# Altium schematic symbol library MEB_SCH.SchLib: 70 symbols (part 1 of 2)
Pins are listed as number, name and electrical type; pins without a type are passive.

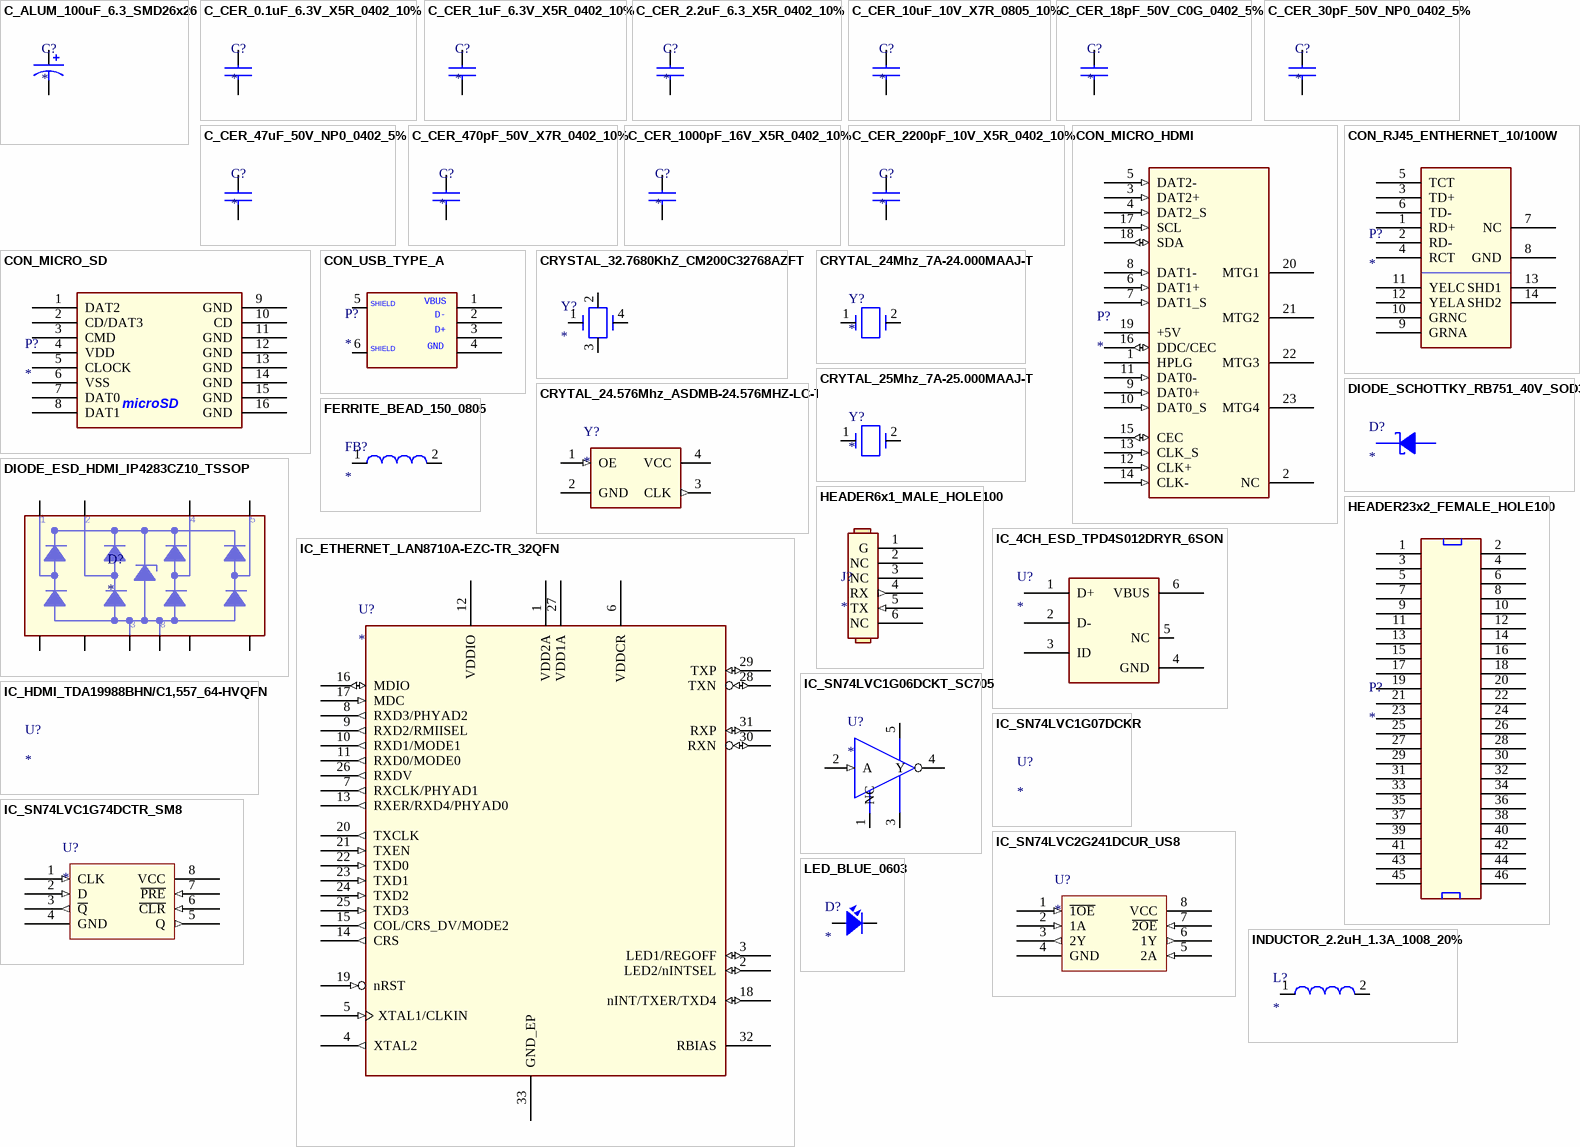
[diagram p0: symbols C_ALUM_100uF_6.3_SMD26x26 to LED_BLUE_0603]

## C_ALUM_100uF_6.3_SMD26x26
designator C?
CAP ALUM 100UF 20% 6.3V SMD; Manufacturer: Cornell Dubilier Electronics (CDE); Manufacturer Part Number: AVE107M06D16T-F; Capacitance: 100µF; ESR (Equivalent Series Resistance): 4.64 Ohm @ 120Hz; Lifetime @ Temp.: 2000 Hrs @ 85°C; Polarization: Polar; Ripple Current: 120mA @ 120Hz; Surface Mount Land Size: 0.260" L x 0.260" W (6.60mm x 6.60mm); Supplier 1: Digi-Key; RoHS: RoHS Compliant; Category: Capacitors; Stock 1: 18000; Pricing 1: 1000=0.0855, 2000=0.081, 5000=0.0765, 10000=0.072, 25000=0.0675, 50000=0.063, 100000=0.0585 (USD); Packaging: Tape & Reel (TR); Part Status: Active; Tolerance: ±20%; Voltage Rating: 6.3V; Operating Temperature: -40°C ~ 85°C; Applications: General Purpose; Impedance: -; Lead Spacing: -; Size / Dimension: 0.248" Dia (6.30mm); Height - Seated (Max): 0.209" (5.30mm); Mounting Type: Surface Mount; Package / Case: Radial, Can - SMD; ComponentLink1URL: http://www.cde.com/resources/catalogs/AVE.pdf; ComponentLink1Description: http://www.cde.com/resources/catalogs/AVE.pdf; Supplier Part Number 1: 338-1787-2-ND
pins: 1, 2

## C_CER_0.1uF_6.3V_X5R_0402_10%
designator C?
CAP CER 0.1UF 6.3V X5R 0402; Manufacturer: Murata Electronics North America; Manufacturer Part Number: GRM155R60J104KA01D; Capacitance: 0.10µF; Tolerance: ±10%; Supplier 1: Digi-Key; RoHS: RoHS Compliant; Category: Capacitors; Stock 1: 370000; Pricing 1: 10000=0.0021, 20000=0.002, 30000=0.0019, 50000=0.0017, 100000=0.00138 (USD); Packaging: Tape & Reel (TR); Part Status: Active; Voltage - Rated: 6.3V; Temperature Coefficient: X5R; Operating Temperature: -55°C ~ 85°C; Features: -; Ratings: -; Applications: General Purpose; Failure Rate: *; Mounting Type: Surface Mount, MLCC; Package / Case: 0402 (1005 Metric); Size / Dimension: 0.039" L x 0.020" W (1.00mm x 0.50mm); Height - Seated (Max): -; Thickness (Max): 0.022" (0.55mm); Lead Spacing: -; Lead Style: -; ComponentLink1URL: http://www.murata.com/~/media/webrenewal/support/library/catalog/products/capacitor/mlcc/c02e.pdf; ComponentLink1Description: http://www.murata.com/~/media/webrenewal/support/library/catalog/products/capacitor/mlcc/c02e.pdf; Supplier Part Number 1: 490-6287-2-ND
pins: 1, 2

## C_CER_1uF_6.3V_X5R_0402_10%
designator C?
CAP CER 1UF 6.3V X5R 0402; Manufacturer: Murata Electronics North America; Manufacturer Part Number: GRM155R60J105KE19D; Capacitance: 1µF; Tolerance: ±10%; Supplier 1: Digi-Key; RoHS: RoHS Compliant; Category: Capacitors; Stock 1: 3360000; Pricing 1: 10000=0.00365, 20000=0.00348, 30000=0.00331, 50000=0.00296, 100000=0.00239 (USD); Packaging: Tape & Reel (TR); Part Status: Active; Voltage - Rated: 6.3V; Temperature Coefficient: X5R; Operating Temperature: -55°C ~ 85°C; Features: -; Ratings: -; Applications: General Purpose; Failure Rate: *; Mounting Type: Surface Mount, MLCC; Package / Case: 0402 (1005 Metric); Size / Dimension: 0.039" L x 0.020" W (1.00mm x 0.50mm); Height - Seated (Max): -; Thickness (Max): 0.022" (0.55mm); Lead Spacing: -; Lead Style: -; ComponentLink1URL: http://www.murata.com/~/media/webrenewal/support/library/catalog/products/capacitor/mlcc/c02e.pdf; ComponentLink1Description: http://www.murata.com/~/media/webrenewal/support/library/catalog/products/capacitor/mlcc/c02e.pdf; Supplier Part Number 1: 490-1320-2-ND
pins: 1, 2

## C_CER_2.2uF_6.3_X5R_0402_10%
designator C?
CAP CER 2.2UF 6.3V X5R 0402; Manufacturer: Murata Electronics North America; Manufacturer Part Number: GRT155R60J225KE01D; Capacitance: 2.2µF; Tolerance: ±10%; Supplier 1: Digi-Key; RoHS: RoHS Compliant; Category: Capacitors; Stock 1: 10000; Pricing 1: 10000=0.0166, 20000=0.01577, 30000=0.01494, 50000=0.0137, 100000=0.01131 (USD); Packaging: Tape & Reel (TR); Part Status: Active; Voltage - Rated: 6.3V; Temperature Coefficient: X5R; Operating Temperature: -55°C ~ 85°C; Features: -; Ratings: AEC-Q200; Applications: Automotive; Failure Rate: *; Mounting Type: Surface Mount, MLCC; Package / Case: 0402 (1005 Metric); Size / Dimension: 0.039" L x 0.020" W (1.00mm x 0.50mm); Height - Seated (Max): -; Thickness (Max): 0.022" (0.55mm); Lead Spacing: -; Lead Style: -; ComponentLink1URL: http://search.murata.co.jp/Ceramy/image/img/A01X/G101/ENG/GRT155R60J225KE01-01.pdf; ComponentLink1Description: http://search.murata.co.jp/Ceramy/image/img/A01X/G101/ENG/GRT155R60J225KE01-01.pdf; Supplier Part Number 1: 490-12250-2-ND
pins: 1, 2

## C_CER_10uF_10V_X7R_0805_10%
designator C?
CAP CER 10UF 10V X7R 0805; Manufacturer: Murata Electronics North America; Manufacturer Part Number: GRM21BR71A106KE51L; Capacitance: 10µF; Tolerance: ±10%; Supplier 1: Digi-Key; RoHS: RoHS Compliant; Category: Capacitors; Stock 1: 966000; Pricing 1: 3000=0.05, 6000=0.04625, 9000=0.04375, 15000=0.0415, 30000=0.04, 75000=0.0375, 150000=0.03313 (USD); Packaging: Tape & Reel (TR); Part Status: Active; Voltage - Rated: 10V; Temperature Coefficient: X7R; Operating Temperature: -55°C ~ 125°C; Features: -; Ratings: -; Applications: General Purpose; Failure Rate: *; Mounting Type: Surface Mount, MLCC; Package / Case: 0805 (2012 Metric); Size / Dimension: 0.079" L x 0.049" W (2.00mm x 1.25mm); Height - Seated (Max): -; Thickness (Max): 0.053" (1.35mm); Lead Spacing: -; Lead Style: -; ComponentLink1URL: http://www.murata.com/~/media/webrenewal/support/library/catalog/products/capacitor/mlcc/c02e.pdf; ComponentLink1Description: http://www.murata.com/~/media/webrenewal/support/library/catalog/products/capacitor/mlcc/c02e.pdf; Supplier Part Number 1: 490-3905-2-ND
pins: 1, 2

## C_CER_18pF_50V_C0G_0402_5%
designator C?
CAP CER 18PF 50V NP0 0402; Manufacturer: Murata Electronics North America; Manufacturer Part Number: GRM1555C1H180JZ01D; Tolerance: ±5%; Temperature Coefficient: C0G, NP0; Supplier 1: Digi-Key; RoHS: RoHS Compliant; Category: Capacitors; Stock 1: 0; Pricing 1: 10000=0 (USD); Packaging: Tape & Reel (TR); Part Status: Obsolete; Capacitance: 18pF; Voltage - Rated: 50V; Operating Temperature: -55°C ~ 125°C; Features: -; Ratings: -; Applications: General Purpose; Failure Rate: *; Mounting Type: Surface Mount, MLCC; Package / Case: 0402 (1005 Metric); Size / Dimension: 0.039" L x 0.020" W (1.00mm x 0.50mm); Height - Seated (Max): -; Thickness (Max): 0.022" (0.55mm); Lead Spacing: -; Lead Style: -; ComponentLink1URL: http://media.digikey.com/pdf/Data%20Sheets/Murata%20PDFs/Chip%20Monolithic%20Ceramic%20Caps.pdf; ComponentLink1Description: http://media.digikey.com/pdf/Data%20Sheets/Murata%20PDFs/Chip%20Monolithic%20Ceramic%20Caps.pdf; Supplier Part Number 1: 490-1281-2-ND
pins: 1, 2

## C_CER_30pF_50V_NP0_0402_5%
designator C?
CAP CER 30PF 50V NP0 0402; Manufacturer: Murata Electronics North America; Manufacturer Part Number: GRM1555C1H300JA01D; Tolerance: ±5%; Temperature Coefficient: C0G, NP0; Supplier 1: Digi-Key; RoHS: RoHS Compliant; Category: Capacitors; Stock 1: 840000; Pricing 1: 10000=0.0021, 20000=0.002, 30000=0.0019, 50000=0.0017, 100000=0.00138 (USD); Packaging: Tape & Reel (TR); Part Status: Active; Capacitance: 30pF; Voltage - Rated: 50V; Operating Temperature: -55°C ~ 125°C; Features: -; Ratings: -; Applications: General Purpose; Failure Rate: *; Mounting Type: Surface Mount, MLCC; Package / Case: 0402 (1005 Metric); Size / Dimension: 0.039" L x 0.020" W (1.00mm x 0.50mm); Height - Seated (Max): -; Thickness (Max): 0.022" (0.55mm); Lead Spacing: -; Lead Style: -; ComponentLink1URL: http://www.murata.com/~/media/webrenewal/support/library/catalog/products/capacitor/mlcc/c02e.pdf; ComponentLink1Description: http://www.murata.com/~/media/webrenewal/support/library/catalog/products/capacitor/mlcc/c02e.pdf; Supplier Part Number 1: 490-5935-2-ND
pins: 1, 2

## C_CER_47uF_50V_NP0_0402_5%
designator C?
CAP CER 47PF 50V NP0 0402; Manufacturer: Murata Electronics North America; Manufacturer Part Number: GRM1555C1H470JA01D; Tolerance: ±5%; Temperature Coefficient: C0G, NP0; Supplier 1: Digi-Key; RoHS: RoHS Compliant; Category: Capacitors; Stock 1: 250000; Pricing 1: 10000=0.0021, 20000=0.002, 30000=0.0019, 50000=0.0017, 100000=0.00138 (USD); Packaging: Tape & Reel (TR); Part Status: Active; Capacitance: 47pF; Voltage - Rated: 50V; Operating Temperature: -55°C ~ 125°C; Features: -; Ratings: -; Applications: General Purpose; Failure Rate: *; Mounting Type: Surface Mount, MLCC; Package / Case: 0402 (1005 Metric); Size / Dimension: 0.039" L x 0.020" W (1.00mm x 0.50mm); Height - Seated (Max): -; Thickness (Max): 0.022" (0.55mm); Lead Spacing: -; Lead Style: -; ComponentLink1URL: http://www.murata.com/~/media/webrenewal/support/library/catalog/products/capacitor/mlcc/c02e.pdf; ComponentLink1Description: http://www.murata.com/~/media/webrenewal/support/library/catalog/products/capacitor/mlcc/c02e.pdf; Supplier Part Number 1: 490-5942-2-ND
pins: 1, 2

## C_CER_470pF_50V_X7R_0402_10%
designator C?
CAP CER 470PF 50V X7R 0402; Manufacturer: Murata Electronics North America; Manufacturer Part Number: GRM155R71H471KA01D; Tolerance: ±10%; Supplier 1: Digi-Key; RoHS: RoHS Compliant; Category: Capacitors; Stock 1: 654393; Pricing 1: 1=0.1, 10=0.018, 50=0.0098, 100=0.0083, 250=0.00676, 500=0.00578, 1000=0.0045, 5000=0.00375 (USD); Packaging: Cut Tape (CT); Part Status: Active; Capacitance: 470pF; Voltage - Rated: 50V; Temperature Coefficient: X7R; Operating Temperature: -55°C ~ 125°C; Features: -; Ratings: -; Applications: General Purpose; Failure Rate: *; Mounting Type: Surface Mount, MLCC; Package / Case: 0402 (1005 Metric); Size / Dimension: 0.039" L x 0.020" W (1.00mm x 0.50mm); Height - Seated (Max): -; Thickness (Max): 0.022" (0.55mm); Lead Spacing: -; Lead Style: -; ComponentLink1URL: http://www.murata.com/~/media/webrenewal/support/library/catalog/products/capacitor/mlcc/c02e.pdf; ComponentLink1Description: http://www.murata.com/~/media/webrenewal/support/library/catalog/products/capacitor/mlcc/c02e.pdf; Supplier Part Number 1: 490-1300-1-ND
pins: 1, 2

## C_CER_1000pF_16V_X5R_0402_10%
designator C?
CAP CER 1000PF 16V X5R 0402; Manufacturer: Murata Electronics North America; Manufacturer Part Number: GRM155R61C102KA01D; Tolerance: ±10%; Supplier 1: Digi-Key; RoHS: RoHS Compliant; Category: Capacitors; Stock 1: 39732; Pricing 1: 1=0.1, 10=0.023, 50=0.0124, 100=0.0105, 250=0.00856, 500=0.00732, 1000=0.0057, 5000=0.00475 (USD); Packaging: Cut Tape (CT); Part Status: Active; Capacitance: 1000pF; Voltage - Rated: 16V; Temperature Coefficient: X5R; Operating Temperature: -55°C ~ 85°C; Features: -; Ratings: -; Applications: General Purpose; Failure Rate: *; Mounting Type: Surface Mount, MLCC; Package / Case: 0402 (1005 Metric); Size / Dimension: 0.039" L x 0.020" W (1.00mm x 0.50mm); Height - Seated (Max): -; Thickness (Max): 0.022" (0.55mm); Lead Spacing: -; Lead Style: *; ComponentLink1URL: http://www.murata.com/~/media/webrenewal/support/library/catalog/products/capacitor/mlcc/c02e.pdf; ComponentLink1Description: http://www.murata.com/~/media/webrenewal/support/library/catalog/products/capacitor/mlcc/c02e.pdf; Supplier Part Number 1: 490-6308-1-ND
pins: 1, 2

## C_CER_2200pF_10V_X5R_0402_10%
designator C?
CAP CER 2200PF 10V X5R 0402; Manufacturer: Murata Electronics North America; Manufacturer Part Number: GRM155R61A222KA01D; Tolerance: ±10%; Supplier 1: Digi-Key; RoHS: RoHS Compliant; Category: Capacitors; Stock 1: 30000; Pricing 1: 10000=0.00399, 20000=0.0038, 30000=0.00361, 50000=0.00323, 100000=0.00261 (USD); Packaging: Tape & Reel (TR); Part Status: Active; Capacitance: 2200pF; Voltage - Rated: 10V; Temperature Coefficient: X5R; Operating Temperature: -55°C ~ 85°C; Features: -; Ratings: -; Applications: General Purpose; Failure Rate: *; Mounting Type: Surface Mount, MLCC; Package / Case: 0402 (1005 Metric); Size / Dimension: 0.039" L x 0.020" W (1.00mm x 0.50mm); Height - Seated (Max): -; Thickness (Max): 0.022" (0.55mm); Lead Spacing: -; Lead Style: -; ComponentLink1URL: http://www.murata.com/~/media/webrenewal/support/library/catalog/products/capacitor/mlcc/c02e.pdf; ComponentLink1Description: http://www.murata.com/~/media/webrenewal/support/library/catalog/products/capacitor/mlcc/c02e.pdf; Supplier Part Number 1: 490-8251-2-ND
pins: 1, 2

## CON_MICRO_HDMI
designator P?
CONN HDMI RECPT 19POS SMT R/A; Manufacturer: Amphenol FCI; Manufacturer Part Number: 10118241-001RLF; Connector Type: HDMI - Micro; Number of Contacts: 19; Gender: Receptacle; Supplier 1: Digi-Key; RoHS: RoHS Compliant; Category: Connectors, Interconnects; Stock 1: 11200; Pricing 1: 800=0.73623, 1600=0.63105, 2400=0.61002, 5600=0.58898, 8000=0.55953, 20000=0.54691 (USD); Packaging: Tape & Reel (TR); Part Status: Active; Specifications: -; Mounting Type: Surface Mount, Right Angle, Horizontal; Features: Shielded, Solder Retention; Ingress Protection: -; ComponentLink1URL: http://portal.fciconnect.com/Comergent//fci/drawing/10118241.pdf; ComponentLink1Description: http://portal.fciconnect.com/Comergent//fci/drawing/10118241.pdf; Supplier Part Number 1: 609-4615-2-ND
pins: 1 HPLG, 2 NC, 3 DAT2+ (in), 4 DAT2_S (in), 5 DAT2- (in), 6 DAT1+ (in), 7 DAT1_S (in), 8 DAT1- (in), 9 DAT0+ (in), 10 DAT0_S (in), 11 DAT0- (in), 12 CLK+ (in), 13 CLK_S (in), 14 CLK- (in), 15 CEC (io), 16 DDC/CEC (io), 17 SCL (in), 18 SDA (io), 19 +5V (power), 20 MTG1, 21 MTG2, 22 MTG3, 23 MTG4

## CON_MICRO_SD
designator P?
CONN MICRO SD CARD PUSH-PUSH R/A; Manufacturer: Amphenol Commercial Products; Manufacturer Part Number: 101-00660-68-6; Card Type: Secure Digital - microSD™; Number of Positions: 10 (8 + 2); Connector Type: Connector and Ejector; Insertion, Removal Method: Push In, Push Out; RoHS: RoHS Compliant; Category: Connectors, Interconnects; Packaging: Tape & Reel (TR); Part Status: Active; Ejector Side: -; Mounting Type: Surface Mount, Right Angle; Features: Switch; Height Above Board: 0.093" (2.35mm); Mounting Feature: Normal, Standard - Top; Contact Finish: Gold; Contact Finish Thickness: 15µin (0.38µm); ComponentLink1URL: https://www.amphenolcanada.com/ProductSearch/drawings/AC/10100660686.pdf; ComponentLink1Description: https://www.amphenolcanada.com/ProductSearch/drawings/AC/10100660686.pdf; Supplier 1: Digi-Key; Stock 1: 3900; Pricing 1: 1300=2.19356, 2600=2.04228, 6500=1.96664 (USD); ComponentLink2URL: http://www.molex.com/pdm_docs/sd/5025700893_sd.pdf; ComponentLink2Description: http://www.molex.com/pdm_docs/sd/5025700893_sd.pdf; Supplier Part Number 1: WM19093TR-ND
pins: 1 DAT2, 2 CD/DAT3, 3 CMD, 4 VDD (power), 5 CLOCK, 6 VSS (power), 7 DAT0, 8 DAT1, 9 GND (power), 10 CD, 11 GND (power), 12 GND (power), 13 GND, 14 GND, 15 GND, 16 GND
text: microSD

## CON_RJ45_ENTHERNET_10/100W
designator P?
CONN MAGJACK 1PORT 100 BASE-T; Manufacturer: WIZnet; Manufacturer Part Number: RB1-125BAG1A; Connector Type: RJ45; Number of Ports: 1; LED Color: Green - Yellow; Number of Cores per Jack: 4; Shielding: Shielded, EMI Finger; Tab Direction: Down; Shield Material: Stainless Steel; Supplier 1: Digi-Key; RoHS: RoHS Compliant; Category: Connectors, Interconnects; Stock 1: 8136; Pricing 1: 1=2.55, 10=2.448, 25=2.244, 50=2.142, 100=2.04, 250=1.785, 500=1.734, 1000=1.56 (USD); Packaging: Bulk; Part Status: Active; Number of Rows: 1; Applications: 10/100 Base-T, AutoMDIX; Mounting Type: Through Hole; Orientation: 90° Angle (Right); Termination: Solder; Height Above Board: 0.525" (13.33mm); Features: Board Lock; Contact Material: Phosphor Bronze; Contact Finish: Gold; Contact Finish Thickness: Flash; Housing Material: Thermoplastic; Operating Temperature: 0°C ~ 70°C; ComponentLink1URL: http://www.shopwiznet.com/lanotattachments/download/file/id/95/store/1/; ComponentLink1Description: http://www.shopwiznet.com/lanotattachments/download/file/id/95/store/1/; Supplier Part Number 1: 1278-1011-ND
pins: 1 RD+, 2 RD-, 3 TD+, 4 RCT, 5 TCT, 6 TD-, 7 NC, 8 GND, 9 GRNA, 10 GRNC, 11 YELC, 12 YELA, 13 SHD1, 14 SHD2

## CON_USB_TYPE_A
designator P?
CONN RCPT USB TYPE A R/A PCB; Manufacturer: Amphenol FCI; Manufacturer Part Number: 87520-0010BLF; Connector Type: USB - A; Number of Contacts: 4; Gender: Receptacle; Specifications: USB 2.0; Supplier 1: Digi-Key; RoHS: RoHS Compliant; Category: Connectors, Interconnects; Stock 1: 19177; Pricing 1: 1=0.77, 10=0.723, 50=0.5782, 100=0.5541, 250=0.50588, 500=0.4818, 1000=0.39749, 2500=0.36135, 5000=0.34931 (USD); Packaging: Tube; Part Status: Active; Mounting Type: Through Hole, Right Angle, Horizontal; Features: Board Lock; Ingress Protection: -; ComponentLink1URL: http://portal.fciconnect.com/Comergent//fci/drawing/87520.pdf; ComponentLink1Description: http://portal.fciconnect.com/Comergent//fci/drawing/87520.pdf; Supplier Part Number 1: 609-1045-ND
pins: 1 P1, 2 P2, 3 P3, 4 P4, 5 SHELD1, 6 PAD4
text: SHIELD; VBUS; D-; D+; GND

## CRYSTAL_32.7680KhZ_CM200C32768AZFT
designator Y?
CRYSTAL 32.7680KHZ 12.5PF SMD; Manufacturer: Citizen Finedevice Co Ltd; Manufacturer Part Number: CM200C32768AZFT; Frequency: 32.768kHz; Frequency Tolerance: ±30ppm; ESR (Equivalent Series Resistance): 50 kOhm; Operating Mode: Fundamental; Supplier 1: Digi-Key; RoHS: RoHS Compliant; Category: Crystals and Oscillators; Stock 1: 21000; Pricing 1: 3000=0.3, 6000=0.29, 15000=0.28 (USD); Packaging: Tape & Reel (TR); Part Status: Active; Type: kHz Crystal (Tuning Fork); Frequency Stability: -; Load Capacitance: 12.5pF; Operating Temperature: -40°C ~ 85°C; Ratings: -; Mounting Type: Surface Mount; Package / Case: 4-SOJ, 5.50mm pitch; Size / Dimension: 0.311" L x 0.146" W (7.90mm x 3.70mm); Height: 0.098" (2.50mm); ComponentLink1URL: http://cfd.citizen.co.jp/english/prod-tech/product/pdf/datasheet_TF/CM200C_CM250C_E.pdf; ComponentLink1Description: http://cfd.citizen.co.jp/english/prod-tech/product/pdf/datasheet_TF/CM200C_CM250C_E.pdf; Supplier Part Number 1: 300-8738-2-ND
pins: 1, 2, 3, 4

## CRYTAL_24.576Mhz_ASDMB-24.576MHZ-LC-T
designator Y?
OSC MEMS 24.576MHZ CMOS SMD; Manufacturer: Abracon LLC; Manufacturer Part Number: ASDMB-24.576MHZ-LC-T; Function: Standby (Power Down); Output: LVCMOS; Voltage - Supply: 1.8 V ~ 3.3 V; Frequency Stability: ±50ppm; Current - Supply (Max): 16mA; Current - Supply (Disable) (Max): 15µA; Supplier 1: Digi-Key; RoHS: RoHS Compliant; Category: Crystals and Oscillators; Stock 1: 38000; Pricing 1: 1000=0.675, 3000=0.6525, 5000=0.63, 10000=0.6075 (USD); Packaging: Tape & Reel (TR); Part Status: Active; Type: MEMS (Silicon); Frequency: 24.576MHz; Operating Temperature: -40°C ~ 85°C; Ratings: -; Mounting Type: Surface Mount; Size / Dimension: 0.098" L x 0.079" W (2.50mm x 2.00mm); Height: 0.035" (0.90mm); Package / Case: 4-SMD, No Lead (DFN, LCC); ComponentLink1URL: http://www.abracon.com/Oscillators/ASDMB.pdf; ComponentLink1Description: http://www.abracon.com/Oscillators/ASDMB.pdf; Supplier Part Number 1: 535-11729-2-ND
pins: 1 OE (in), 2 GND (power), 3 CLK (out), 4 VCC (power)

## CRYTAL_24Mhz_7A-24.000MAAJ-T
designator Y?
CRYSTAL 24.0000MHZ 18PF SMD; Manufacturer: TXC CORPORATION; Manufacturer Part Number: 7A-24.000MAAJ-T; Frequency: 24MHz; Frequency Stability: ±30ppm; ESR (Equivalent Series Resistance): 50 Ohm; Operating Mode: Fundamental; Supplier 1: Digi-Key; RoHS: RoHS Compliant; Category: Crystals and Oscillators; Stock 1: 134000; Pricing 1: 1000=0.375, 3000=0.3625, 5000=0.35, 10000=0.3375 (USD); Packaging: Tape & Reel (TR); Part Status: Active; Type: MHz Crystal; Frequency Tolerance: ±30ppm; Load Capacitance: 18pF; Operating Temperature: -20°C ~ 70°C; Ratings: -; Mounting Type: Surface Mount; Package / Case: 2-SMD, No Lead (DFN, LCC); Size / Dimension: 0.197" L x 0.126" W (5.00mm x 3.20mm); Height: 0.053" (1.35mm); ComponentLink1URL: http://www.txccrystal.com/images/pdf/7a.pdf; ComponentLink1Description: http://www.txccrystal.com/images/pdf/7a.pdf; Supplier Part Number 1: 887-1090-2-ND
pins: 1, 2

## CRYTAL_25Mhz_7A-25.000MAAJ-T
designator Y?
CRYSTAL 25.0000MHZ 18PF SMD; Manufacturer: TXC CORPORATION; Manufacturer Part Number: 7A-25.000MAAJ-T; Frequency: 25MHz; Frequency Stability: ±30ppm; ESR (Equivalent Series Resistance): 50 Ohm; Operating Mode: Fundamental; Supplier 1: Digi-Key; RoHS: RoHS Compliant; Category: Crystals and Oscillators; Stock 1: 55000; Pricing 1: 1000=0.375, 3000=0.3625, 5000=0.35, 10000=0.3375 (USD); Packaging: Tape & Reel (TR); Part Status: Active; Type: MHz Crystal; Frequency Tolerance: ±30ppm; Load Capacitance: 18pF; Operating Temperature: -20°C ~ 70°C; Ratings: -; Mounting Type: Surface Mount; Package / Case: 2-SMD, No Lead (DFN, LCC); Size / Dimension: 0.197" L x 0.126" W (5.00mm x 3.20mm); Height: 0.053" (1.35mm); ComponentLink1URL: http://www.txccrystal.com/images/pdf/7a.pdf; ComponentLink1Description: http://www.txccrystal.com/images/pdf/7a.pdf; Supplier Part Number 1: 887-1092-2-ND
pins: 1, 2

## DIODE_ESD_HDMI_IP4283CZ10_TSSOP
designator D?
TVS DIODE 5.5VWM 9.5VC 10TSSOP; Manufacturer: NXP Semiconductors; Manufacturer Part Number: IP4283CZ10-TT,118; Type: Steering (Rail to Rail); Bidirectional Channels: 4; Voltage - Reverse Standoff (Typ): 5.5V; Voltage - Breakdown (Min): 6V; Voltage - Clamping (Max) @ Ipp: 9.5V (Typ); Current - Peak Pulse (10/1000µs): 3.8A (8/20µs); Power Line Protection: Yes; Supplier 1: Digi-Key; RoHS: RoHS Compliant; Category: Circuit Protection; Stock 1: 0; Pricing 1: 2500=0 (USD); Packaging: Tape & Reel (TR); Part Status: Obsolete; Unidirectional Channels: -; Power - Peak Pulse: -; Applications: HDMI; Capacitance @ Frequency: -; Operating Temperature: -40°C ~ 85°C (TA); Mounting Type: Surface Mount; Package / Case: 10-TFSOP, 10-MSOP (0.118", 3.00mm Width); Supplier Device Package: 10-TSSOP; ComponentLink1URL: http://www.nxp.com/documents/data_sheet/IP4283CZ10_SER.pdf; ComponentLink1Description: http://www.nxp.com/documents/data_sheet/IP4283CZ10_SER.pdf; Supplier Part Number 1: 568-5875-2-ND
pins: 1, 2, 3, 4, 5, 6, 7, 8, 9, 10

## DIODE_SCHOTTKY_RB751_40V_SOD323
designator D?
DIODE SCHOTTKY 40V 120MA SOD323; Manufacturer: NXP Semiconductors; Manufacturer Part Number: RB751V40,115; Current - Average Rectified (Io): 120mA (DC); Voltage - Forward (Vf) (Max) @ If: 370mV @ 1mA; Speed: Small Signal =< 200mA (Io), Any Speed; Current - Reverse Leakage @ Vr: 500nA @ 30V; Capacitance @ Vr, F: 2pF @ 1V, 1MHz; Supplier 1: Digi-Key; RoHS: RoHS Compliant; Category: Discrete Semiconductor Products; Stock 1: 39000; Pricing 1: 3000=0.04646, 6000=0.0404, 15000=0.03434, 30000=0.03232, 75000=0.0303, 150000=0.02626 (USD); Packaging: Tape & Reel (TR); Part Status: Active; Diode Type: Schottky; Voltage - DC Reverse (Vr) (Max): 40V; Reverse Recovery Time (trr): -; Mounting Type: Surface Mount; Package / Case: SC-76, SOD-323; Supplier Device Package: SOD-323; Operating Temperature - Junction: 150°C (Max); ComponentLink1URL: http://www.nxp.com/documents/data_sheet/RB751_SER.pdf; ComponentLink1Description: http://www.nxp.com/documents/data_sheet/RB751_SER.pdf; Supplier Part Number 1: 568-8119-2-ND
pins: 1 C, 2 A

## FERRITE_BEAD_150_0805
designator FB?
FERRITE BEAD 150 OHM 0805 1LN; Manufacturer: Murata Electronics North America; Manufacturer Part Number: BLM21AG151SN1D; Number of Lines: 1; Impedance @ Frequency: 150 Ohm @ 100MHz; Current Rating (Max): 800mA; DC Resistance (DCR) (Max): 100 mOhm; Supplier 1: Digi-Key; RoHS: RoHS Compliant; Category: Filters; Stock 1: 24000; Pricing 1: 4000=0.01824, 8000=0.01653, 12000=0.01596, 28000=0.01482, 100000=0.01465 (USD); Packaging: Tape & Reel (TR); Part Status: Active; Filter Type: -; Ratings: -; Operating Temperature: -55°C ~ 125°C; Package / Case: 0805 (2012 Metric); Mounting Type: Surface Mount; Height (Max): 0.041" (1.05mm); Size / Dimension: 0.079" L x 0.049" W (2.00mm x 1.25mm); ComponentLink1URL: http://search.murata.co.jp/Ceramy/image/img/PDF/ENG/L0110S0100BLM21A.pdf; ComponentLink1Description: http://search.murata.co.jp/Ceramy/image/img/PDF/ENG/L0110S0100BLM21A.pdf; Supplier Part Number 1: 490-9703-2-ND
pins: 1, 2

## HEADER6x1_MALE_HOLE100
designator J?
CONN HEADER 6POS .100 STR TIN; Manufacturer: Amphenol FCI; Manufacturer Part Number: 68000-406HLF; Connector Type: Header, Unshrouded; Number of Positions: 6; Number of Positions Loaded: All; Pitch: 0.100" (2.54mm); Supplier 1: Digi-Key; RoHS: RoHS Compliant; Category: Connectors, Interconnects; Stock 1: 39050; Pricing 1: 1=0.25, 10=0.233, 25=0.1988, 100=0.1615, 250=0.14284, 500=0.13662, 1000=0.11178, 2500=0.10246, 5000=0.09936 (USD); Packaging: Bulk; Part Status: Active; Contact Type: Male Pin; Number of Rows: 1; Row Spacing: -; Contact Mating Length: 0.230" (5.84mm); Mounting Type: Through Hole; Termination: Solder; Fastening Type: -; Features: -; Contact Finish: Tin; Contact Finish Thickness: 100µin (2.54µm); Color: Black; ComponentLink1URL: http://portal.fciconnect.com/Comergent//fci/drawing/68000.pdf; ComponentLink1Description: http://portal.fciconnect.com/Comergent//fci/drawing/68000.pdf; Supplier Part Number 1: 609-3263-ND
pins: 1 G (power), 2 NC, 3 NC, 4 RX (out), 5 TX (in), 6 NC

## HEADER23x2_FEMALE_HOLE100
designator P?
24 MODII VRT DR CE 100/115, ROHS; Manufacturer: TE Connectivity AMP Connectors; Manufacturer Part Number: 5-535977-1; Connector Type: Receptacle; Number of Positions: 24; Number of Positions Loaded: 20; Pitch: 0.100" (2.54mm); Supplier 1: Digi-Key; RoHS: RoHS Compliant; Category: Connectors, Interconnects; Stock 1: 0; Pricing 1: 1080=2.378 (USD); Packaging: Tube; Part Status: Active; Contact Type: Female Socket; Number of Rows: 2; Row Spacing: 0.100" (2.54mm); Mounting Type: Through Hole; Termination: Solder; Fastening Type: -; Features: -; Contact Finish: Gold; Contact Finish Thickness: 30µin (0.76µm); Color: Black; ComponentLink1URL: http://www.te.com/commerce/DocumentDelivery/DDEController?Action=srchrtrv&DocNm=535977&DocType=Customer+Drawing&DocLang=English; ComponentLink1Description: http://www.te.com/commerce/DocumentDelivery/DDEController?Action=srchrtrv&DocNm=535977&DocType=Customer+Drawing&DocLang=English; Supplier Part Number 1: 5-535977-1-ND
pins: 1, 2 26, 3 2, 4 27, 5 3, 6 28, 7 4, 8 29, 9 5, 10 30, 11 6, 12 31, 13 7, 14 32, 15 8, 16 33, 17 9, 18 34, 19 10, 20 35, 21 11, 22 36, 23 12, 24 37, 25 13, 26 38, 27 14, 28 39, 29 15, 30 40, 31 16, 32 41, 33 17, 34 42, 35 18, 36 43, 37 19, 38 44, 39 20, 40 45, 41 21, 42 46, 43 22, 44 47, 45 23, 46 48

## IC_4CH_ESD_TPD4S012DRYR_6SON
designator U?
IC 4CH ESD SOLUTION W/CLAMP 6SON; Manufacturer: Texas Instruments; Manufacturer Part Number: TPD4S012DRYR; Power (Watts): 60W; Number of Circuits: 4; Supplier 1: Digi-Key; RoHS: RoHS Compliant; Category: Circuit Protection; Stock 1: 35000; Pricing 1: 5000=0.23625 (USD); Packaging: Tape & Reel (TR); Part Status: Active; Voltage - Working: -; Voltage - Clamping: -; Technology: Mixed Technology; Applications: USB; Package / Case: 6-UFDFN; Supplier Device Package: 6-SON (1.45x1); ComponentLink1URL: http://www.ti.com/lit/ds/symlink/tpd4s012.pdf; ComponentLink1Description: http://www.ti.com/lit/ds/symlink/tpd4s012.pdf; Supplier Part Number 1: 296-24244-2-ND
pins: 1 D+, 2 D-, 3 ID, 4 GND (power), 5 NC, 6 VBUS (power)

## IC_ETHERNET_LAN8710A-EZC-TR_32QFN
designator U?
IC TXRX ETHERNET 32QFN; Manufacturer: Microchip Technology; Manufacturer Part Number: LAN8710A-EZC-TR; Protocol: MII, RMII; Number of Drivers/Receivers: 4/4; Duplex: Full; Voltage - Supply: 1.6 V ~ 3.6 V; Supplier 1: Digi-Key; RoHS: RoHS Compliant; Category: Integrated Circuits (ICs); Stock 1: 15000; Pricing 1: 5000=1.0125 (USD); Packaging: Tape & Reel (TR); Part Status: Active; Type: Transceiver; Receiver Hysteresis: -; Data Rate: -; Operating Temperature: 0°C ~ 85°C; Mounting Type: Surface Mount; Package / Case: 32-VFQFN Exposed Pad; Supplier Device Package: 32-QFN (5x5); ComponentLink1URL: http://www.microchip.com/mymicrochip/filehandler.aspx?ddocname=en586585; ComponentLink1Description: http://www.microchip.com/mymicrochip/filehandler.aspx?ddocname=en586585; Supplier Part Number 1: LAN8710A-EZC-TR-ND
pins: 1 VDD2A (power), 2 LED2/nINTSEL (io), 3 LED1/REGOFF (io), 4 XTAL2 (out), 5 XTAL1/CLKIN (in), 6 VDDCR (power), 7 RXCLK/PHYAD1 (out), 8 RXD3/PHYAD2 (out), 9 RXD2/RMIISEL (out), 10 RXD1/MODE1 (out), 11 RXD0/MODE0 (out), 12 VDDIO (power), 13 RXER/RXD4/PHYAD0 (out), 14 CRS (out), 15 COL/CRS_DV/MODE2 (out), 16 MDIO (io), 17 MDC (in), 18 nINT/TXER/TXD4 (io), 19 nRST (in), 20 TXCLK (out), 21 TXEN (in), 22 TXD0 (in), 23 TXD1 (in), 24 TXD2 (in), 25 TXD3 (in), 26 RXDV (out), 27 VDD1A (power), 28 TXN (io), 29 TXP (io), 30 RXN (io), 31 RXP (io), 32 RBIAS, 33 GND_EP (power)

## IC_HDMI_TDA19988BHN/C1,557_64-HVQFN
designator U?
IC HDMI TRANSMITTER 64-HVQFN; Manufacturer: NXP Semiconductors; Manufacturer Part Number: TDA19988BHN/C1,557; Supplier 1: Digi-Key; RoHS: RoHS Compliant; Category: Integrated Circuits (ICs); Stock 1: 4980; Pricing 1: 1=5.3, 10=4.76, 100=3.9, 500=3.32, 1000=2.8 (USD); Packaging: Tray; Part Status: Active; Type: HDMI Transmitter; Applications: Set-Top Boxes; Mounting Type: Surface Mount; Package / Case: 64-VFQFN Dual Rows Exposed Pad; Supplier Device Package: 64-HVQFN (9x9); ComponentLink1URL: http://media.digikey.com/pdf/Data%20Sheets/NXP%20PDFs/TDA19988_DS_21_july_2011.pdf; ComponentLink1Description: http://media.digikey.com/pdf/Data%20Sheets/NXP%20PDFs/TDA19988_DS_21_july_2011.pdf; Supplier Part Number 1: 568-12059-ND

## IC_SN74LVC1G06DCKT_SC705
designator U?
IC INVERTER SINGLE 1INPUT SC70-5; Manufacturer: Texas Instruments; Manufacturer Part Number: SN74LVC1G06DCKT; Number of Circuits: 1; Voltage - Supply: 1.65 V ~ 5.5 V; Current - Quiescent (Max): 10µA; Current - Output High, Low: -, 32mA; Logic Level - Low: 0.7 V ~ 0.8 V; Logic Level - High: 1.7 V ~ 2 V; Max Propagation Delay @ V, Max CL: 3ns @ 5V, 50pF; Supplier 1: Digi-Key; RoHS: RoHS Compliant; Category: Integrated Circuits (ICs); Stock 1: 989; Pricing 1: 1=0.77, 10=0.68, 100=0.52 (USD); Packaging: Cut Tape (CT); Part Status: Active; Logic Type: Inverter; Number of Inputs: 1; Features: Open Drain; Operating Temperature: -40°C ~ 125°C; Mounting Type: Surface Mount; Supplier Device Package: SC-70-5; Package / Case: 5-TSSOP, SC-70-5, SOT-353; ComponentLink1URL: http://www.ti.com/lit/ds/symlink/sn74lvc1g06.pdf; ComponentLink1Description: http://www.ti.com/lit/ds/symlink/sn74lvc1g06.pdf; Supplier Part Number 1: 296-32290-1-ND
pins: 1 NC, 2 A (in), 3 GND (power), 4 Y (oc), 5 VCC (power)

## IC_SN74LVC1G07DCKR
designator U?
IC BUFF/DVR NON-INVERT SC705; Manufacturer: Texas Instruments; Manufacturer Part Number: SN74LVC1G07DCKR; Logic Type: Buffer, Non-Inverting; Number of Elements: 1; Output Type: Open Drain; Current - Output High, Low: -, 32mA; Voltage - Supply: 1.65 V ~ 5.5 V; Supplier 1: Digi-Key; RoHS: RoHS Compliant; Category: Integrated Circuits (ICs); Stock 1: 33000; Pricing 1: 3000=0.09, 6000=0.085, 15000=0.0775, 30000=0.0725, 75000=0.065, 150000=0.0625 (USD); Packaging: Tape & Reel (TR); Part Status: Active; Number of Bits per Element: 1; Input Type: -; Operating Temperature: -40°C ~ 125°C (TA); Mounting Type: Surface Mount; Package / Case: 5-TSSOP, SC-70-5, SOT-353; Supplier Device Package: SC-70-5; ComponentLink1URL: http://www.ti.com/lit/ds/symlink/sn74lvc1g07.pdf; ComponentLink1Description: http://www.ti.com/lit/ds/symlink/sn74lvc1g07.pdf; Supplier Part Number 1: 296-8486-2-ND

## IC_SN74LVC1G74DCTR_SM8
designator U?
IC D-TYPE POS TRG SNGL SM8; Manufacturer: Texas Instruments; Manufacturer Part Number: SN74LVC1G74DCTR; Function: Set(Preset) and Reset; Output Type: Differential; Number of Elements: 1; Frequency - Clock: 200MHz; Max Propagation Delay @ V, Max CL: 6.4ns @ 5V, 50pF; Trigger Type: Positive Edge; Current - Output High, Low: 32mA, 32mA; Voltage - Supply: 1.65 V ~ 5.5 V; Current - Quiescent: 10µA; Input Capacitance: 5pF; Supplier 1: Digi-Key; RoHS: RoHS Compliant; Category: Integrated Circuits (ICs); Stock 1: 15000; Pricing 1: 3000=0.24795, 6000=0.23085, 15000=0.2223, 30000=0.21375 (USD); Packaging: Tape & Reel (TR); Part Status: Active; Type: D-Type; Number of Bits per Element: 1; Operating Temperature: -40°C ~ 125°C (TA); Mounting Type: Surface Mount; Package / Case: 8-LSSOP, 8-MSOP (0.110", 2.80mm Width); ComponentLink1URL: http://www.ti.com/lit/ds/symlink/sn74lvc1g74.pdf; ComponentLink1Description: http://www.ti.com/lit/ds/symlink/sn74lvc1g74.pdf; Supplier Part Number 1: 296-25553-2-ND
pins: 1 CLK (in), 2 D (in), 3 ~{Q} (out), 4 GND (power), 5 Q (out), 6 ~{CLR} (in), 7 ~{PRE} (in), 8 VCC (power)

## IC_SN74LVC2G241DCUR_US8
designator U?
IC BUFF/DVR TRI-ST DL US8; Manufacturer: Texas Instruments; Manufacturer Part Number: SN74LVC2G241DCUR; Logic Type: Buffer, Non-Inverting; Number of Elements: 2; Number of Bits per Element: 1; Output Type: Push-Pull; Current - Output High, Low: 32mA, 32mA; Voltage - Supply: 1.65 V ~ 5.5 V; Supplier 1: Digi-Key; RoHS: RoHS Compliant; Category: Integrated Circuits (ICs); Stock 1: 30000; Pricing 1: 3000=0.2015, 6000=0.1885, 15000=0.1755, 30000=0.1664, 75000=0.1625 (USD); Packaging: Tape & Reel (TR); Part Status: Active; Input Type: -; Operating Temperature: -40°C ~ 125°C (TA); Mounting Type: Surface Mount; Package / Case: 8-VFSOP (0.091", 2.30mm Width); Supplier Device Package: US8; ComponentLink1URL: http://www.ti.com/lit/ds/symlink/sn74lvc2g241.pdf; ComponentLink1Description: http://www.ti.com/lit/ds/symlink/sn74lvc2g241.pdf; Supplier Part Number 1: 296-11936-2-ND
pins: 1 ~{1OE} (in), 2 1A (in), 3 2Y (out), 4 GND (power), 5 2A (in), 6 1Y (out), 7 ~{2OE} (in), 8 VCC (power)

## INDUCTOR_2.2uH_1.3A_1008_20%
designator L?
FIXED IND 2.2UH 1.3A 80 MOHM SMD; Manufacturer: Murata Electronics North America; Manufacturer Part Number: LQM2HPN2R2MG0L; Type: Multilayer; Material - Core: Ferrite; Inductance: 2.2µH; Tolerance: ±20%; Shielding: Shielded; DC Resistance (DCR): 100 mOhm Max; Frequency - Self Resonant: 40MHz; Frequency - Test: 1MHz; Supplier 1: Digi-Key; RoHS: RoHS Compliant; Category: Inductors, Coils, Chokes; Stock 1: 216000; Pricing 1: 3000=0.11594, 6000=0.10912, 15000=0.10571, 30000=0.1023, 75000=0.09889, 150000=0.09548 (USD); Packaging: Tape & Reel (TR); Part Status: Active; Current Rating: 1.3A; Current - Saturation: -; Q @ Freq: -; Ratings: -; Operating Temperature: -55°C ~ 125°C; Mounting Type: Surface Mount; Package / Case: 1008 (2520 Metric); Size / Dimension: 0.098" L x 0.079" W (2.50mm x 2.00mm); Height - Seated (Max): 0.039" (1.00mm); ComponentLink1URL: http://search.murata.co.jp/Ceramy/image/img/PDF/ENG/L0075S0104LQM2HP_G0.pdf; ComponentLink1Description: http://search.murata.co.jp/Ceramy/image/img/PDF/ENG/L0075S0104LQM2HP_G0.pdf; Supplier Part Number 1: 490-5114-2-ND
pins: 1, 2

## LED_BLUE_0603
designator D?
LED BLUE CLEAR 0603 SMD; Manufacturer: Lite-On Inc.; Manufacturer Part Number: LTST-C191TBKT; Lens Color: Colorless; Millicandela Rating: 104mcd; Lens Style/Size: Rectangle with Flat Top, 1.10mm x 0.80mm; Voltage - Forward (Vf) (Typ): 3.3V; Current - Test: 20mA; Viewing Angle: 130°; Wavelength - Dominant: 470nm; Wavelength - Peak: 468nm; Supplier 1: Digi-Key; RoHS: RoHS Compliant; Category: Optoelectronics; Stock 1: 135000; Pricing 1: 5000=0.0684, 10000=0.0608, 25000=0.057, 50000=0.0513, 125000=0.0494 (USD); Packaging: Tape & Reel (TR); Part Status: Active; Color: Blue; Lens Transparency: Clear; Mounting Type: Surface Mount; Features: -; Package / Case: 0603 (1608 Metric); Supplier Device Package: *; Size / Dimension: 1.60mm L x 0.80mm W; Height (Max): 0.55mm; ComponentLink1URL: http://optoelectronics.liteon.com/upload/download/DS22-2000-230/S_110_LTST-C191TBKT.pdf; ComponentLink1Description: http://optoelectronics.liteon.com/upload/download/DS22-2000-230/S_110_LTST-C191TBKT.pdf
pins: 1, 2

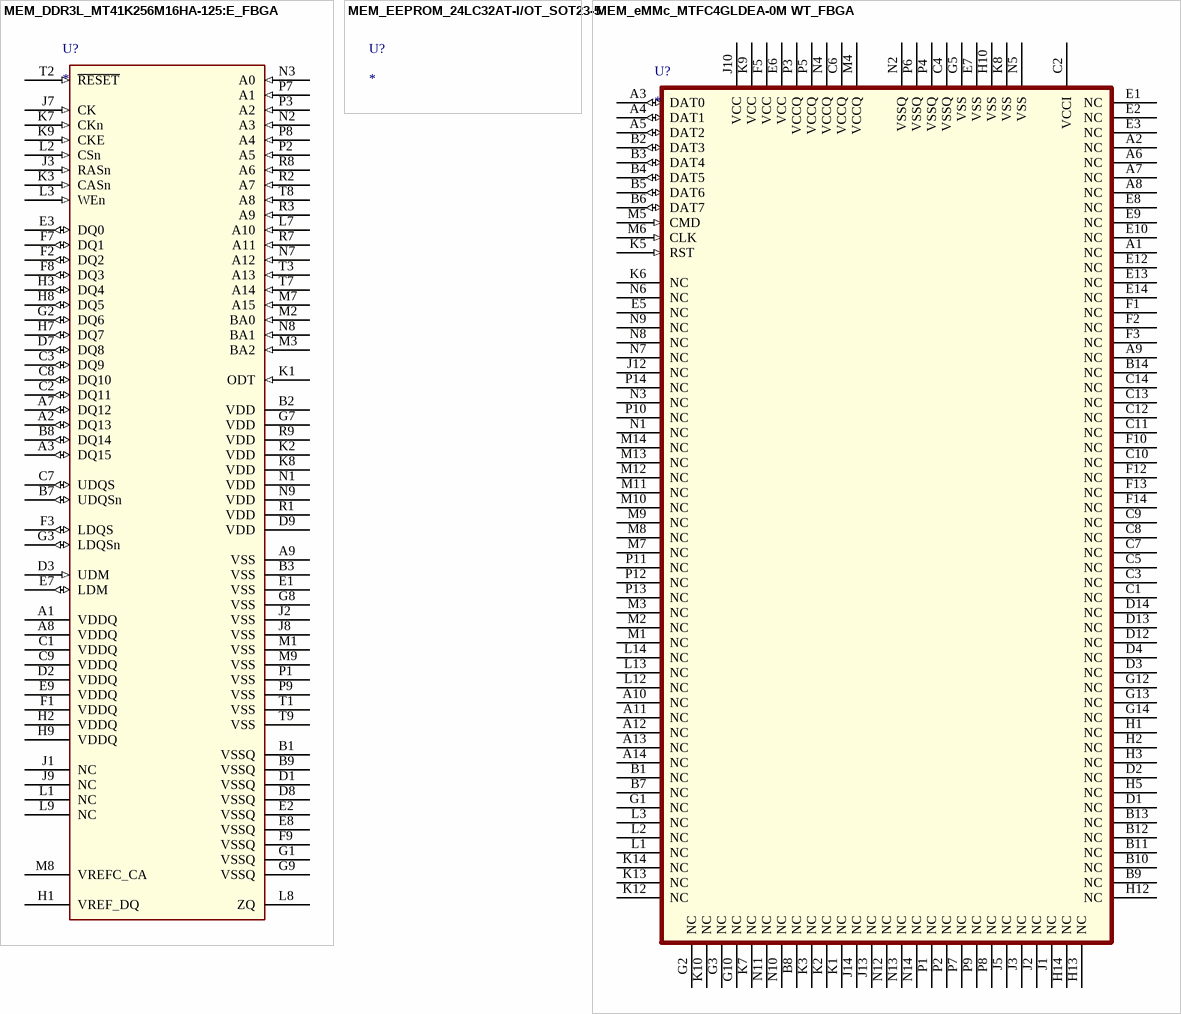
[diagram p1: symbols MEM_DDR3L_MT41K256M16HA-125:E_FBGA to MEM_eMMc_MTFC4GLDEA-0M WT_FBGA]

## MEM_DDR3L_MT41K256M16HA-125:E_FBGA
designator U?
IC DDR3 SDRAM 4GBIT 800MHZ FBGA; Manufacturer: Micron Technology Inc.; Manufacturer Part Number: MT41K256M16HA-125:E; Format - Memory: RAM; Memory Type: DDR3L SDRAM; Memory Size: 4G (256M x16); Interface: Parallel; Voltage - Supply: 1.283 V ~ 1.45 V; Supplier 1: Digi-Key; RoHS: RoHS Compliant; Category: Integrated Circuits (ICs); Stock 1: 0; Pricing 1: 1000=0 (USD); Packaging: Tray; Part Status: Obsolete; Speed: 800MHz; Operating Temperature: 0°C ~ 95°C (TC); Package / Case: 96-TFBGA; Supplier Device Package: 96-FBGA (9x14); ComponentLink1URL: http://www.micron.com/~/media/Documents/Products/Data%20Sheet/DRAM/DDR3/4Gb_1_35V_DDR3L.pdf; ComponentLink1Description: http://www.micron.com/~/media/Documents/Products/Data%20Sheet/DRAM/DDR3/4Gb_1_35V_DDR3L.pdf; Supplier Part Number 1: MT41K256M16HA-125:E-ND
pins: A1 VDDQ (power), A2 DQ13 (io), A3 DQ15 (io), A7 DQ12 (io), A8 VDDQ (power), A9 VSS (power), B1 VSSQ (power), B2 VDD (power), B3 VSS (power), B7 UDQSn (io), B8 DQ14 (io), B9 VSSQ (power), C1 VDDQ (power), C2 DQ11 (io), C3 DQ9 (io), C7 UDQS (io), C8 DQ10 (io), C9 VDDQ (power), D1 VSSQ (power), D2 VDDQ (power), D3 UDM (in), D7 DQ8 (io), D8 VSSQ (power), D9 VDD (power), E1 VSS (power), E2 VSSQ (power), E3 DQ0 (io), E7 LDM (io), E8 VSSQ (power), E9 VDDQ (power), F1 VDDQ (power), F2 DQ2 (io), F3 LDQS (io), F7 DQ1 (io), F8 DQ3 (io), F9 VSSQ (power), G1 VSSQ (power), G2 DQ6 (io), G3 LDQSn (io), G7 VDD (power), G8 VSS (power), G9 VSSQ (power), H1 VREF_DQ, H2 VDDQ (power), H3 DQ4 (io), H7 DQ7 (io), H8 DQ5 (io), H9 VDDQ (power), J1 NC, J2 VSS (power), J3 RASn (in), J7 CK (in), J8 VSS (power), J9 NC, K1 ODT (in), K2 VDD (power), K3 CASn (in), K7 CKn (in), K8 VDD (power), K9 CKE (in), L1 NC (power), L2 CSn (in), L3 WEn (in), L7 A10 (in), L8 ZQ, L9 NC (power), M1 VSS (power), M2 BA0 (in), M3 BA2 (in), M7 A15 (in), M8 VREFC_CA (power), M9 VSS (power), N1 VDD (power), N2 A3 (in), N3 A0 (in), N7 A12 (in), N8 BA1 (in), N9 VDD (power), P1 VSS (power), P2 A5 (in), P3 A2 (in), P7 A1 (in), P8 A4 (in), P9 VSS (power), R1 VDD (power), R2 A7 (in), R3 A9 (in), R7 A11 (in), R8 A6 (in), R9 VDD (power), T1 VSS (power), T2 ~{RESET} (in), T3 A13 (in), T7 A14 (in), T8 A8 (in), T9 VSS (power)

## MEM_EEPROM_24LC32AT-I/OT_SOT23-5
designator U?
IC EEPROM 32KBIT 400KHZ SOT23-5; Manufacturer: Microchip Technology; Manufacturer Part Number: 24LC32AT-I/OT; Format - Memory: EEPROMs - Serial; Memory Size: 32K (4K x 8); Interface: I²C, 2-Wire Serial; Voltage - Supply: 2.5 V ~ 5.5 V; Supplier 1: Digi-Key; RoHS: RoHS Compliant; Category: Integrated Circuits (ICs); Stock 1: 6000; Pricing 1: 3000=0.3 (USD); Packaging: Tape & Reel (TR); Part Status: Active; Memory Type: EEPROM; Speed: 400kHz; Operating Temperature: -40°C ~ 85°C (TA); Package / Case: SC-74A, SOT-753; Supplier Device Package: SOT-23-5; ComponentLink1URL: http://www.microchip.com/mymicrochip/filehandler.aspx?ddocname=en011853; ComponentLink1Description: http://www.microchip.com/mymicrochip/filehandler.aspx?ddocname=en011853; Supplier Part Number 1: 24LC32AT-I/OTTR-ND

## MEM_eMMc_MTFC4GLDEA-0M WT_FBGA
designator U?
IC FLASH 32GBIT 153WFBGA; Manufacturer: Micron Technology Inc.; Manufacturer Part Number: MTFC4GLDEA-0M WT; Memory Type: FLASH - NAND; Memory Size: 32G (4G x 8); Interface: MMC; Voltage - Supply: 1.65 V ~ 3.6 V; Supplier 1: Digi-Key; RoHS: RoHS Compliant; Category: Integrated Circuits (ICs); Stock 1: 0; Pricing 1: 1000=0 (USD); Packaging: Tray; Part Status: Obsolete; Format - Memory: FLASH; Speed: -; Operating Temperature: -25°C ~ 85°C (TA); Package / Case: 153-WFBGA; Supplier Device Package: 153-WFBGA (11.5x13); ComponentLink1URL: http://media.digikey.com/pdf/Data%20Sheets/Micron%20Technology%20Inc%20PDFs/EMMC_Series.pdf; ComponentLink1Description: http://media.digikey.com/pdf/Data%20Sheets/Micron%20Technology%20Inc%20PDFs/EMMC_Series.pdf; Supplier Part Number 1: MTFC4GLDEA-0M WT-ND
pins: A1 NC, A2 NC, A3 DAT0 (io), A4 DAT1 (io), A5 DAT2 (io), A6 NC, A7 NC, A8 NC, A9 NC, A10 NC, A11 NC, A12 NC, A13 NC, A14 NC, B1 NC, B2 DAT3 (io), B3 DAT4 (io), B4 DAT5 (io), B5 DAT6 (io), B6 DAT7 (io), B7 NC, B8 NC, B9 NC, B10 NC, B11 NC, B12 NC, B13 NC, B14 NC, C1 NC, C2 VCCI (power), C3 NC, C4 VSSQ (power), C5 NC, C6 VCCQ (power), C7 NC, C8 NC, C9 NC, C10 NC, C11 NC, C12 NC, C13 NC, C14 NC, D1 NC, D2 NC, D3 NC, D4 NC, D12 NC, D13 NC, D14 NC, E1 NC, E2 NC, E3 NC, E5 NC, E6 VCC (power), E7 VSS (power), E8 NC, E9 NC, E10 NC, E12 NC, E13 NC, E14 NC, F1 NC, F2 NC, F3 NC, F5 VCC (power), F10 NC, F12 NC, F13 NC, F14 NC, G1 NC, G2 NC, G3 NC, G5 VSS (power), G10 NC, G12 NC, G13 NC, G14 NC, H1 NC, H2 NC, H3 NC, H5 NC, H10 VSS (power), H12 NC, H13 NC, H14 NC, J1 NC, J2 NC, J3 NC, J5 NC, J10 VCC (power), J12 NC, J13 NC, J14 NC, K1 NC, K2 NC, K3 NC, K5 RST (in), K6 NC, K7 NC, K8 VSS (power), K9 VCC (power), K10 NC, K12 NC, K13 NC, K14 NC, L1 NC, L2 NC, L3 NC, L12 NC, L13 NC, L14 NC, M1 NC, M2 NC, M3 NC, M4 VCCQ (power), M5 CMD (in), M6 CLK (in), M7 NC, M8 NC, M9 NC, M10 NC, M11 NC, M12 NC, M13 NC, M14 NC, N1 NC, N2 VSSQ (power), N3 NC, N4 VCCQ (power), N5 VSS (power), N6 NC, N7 NC, N8 NC, N9 NC, N10 NC, N11 NC, N12 NC, N13 NC, N14 NC, P1 NC, P2 NC, P3 VCCQ (power), P4 VSSQ (power), P5 VCCQ (power), P6 VSSQ (power), P7 NC, P8 NC, P9 NC, P10 NC, P11 NC, P12 NC, P13 NC, P14 NC

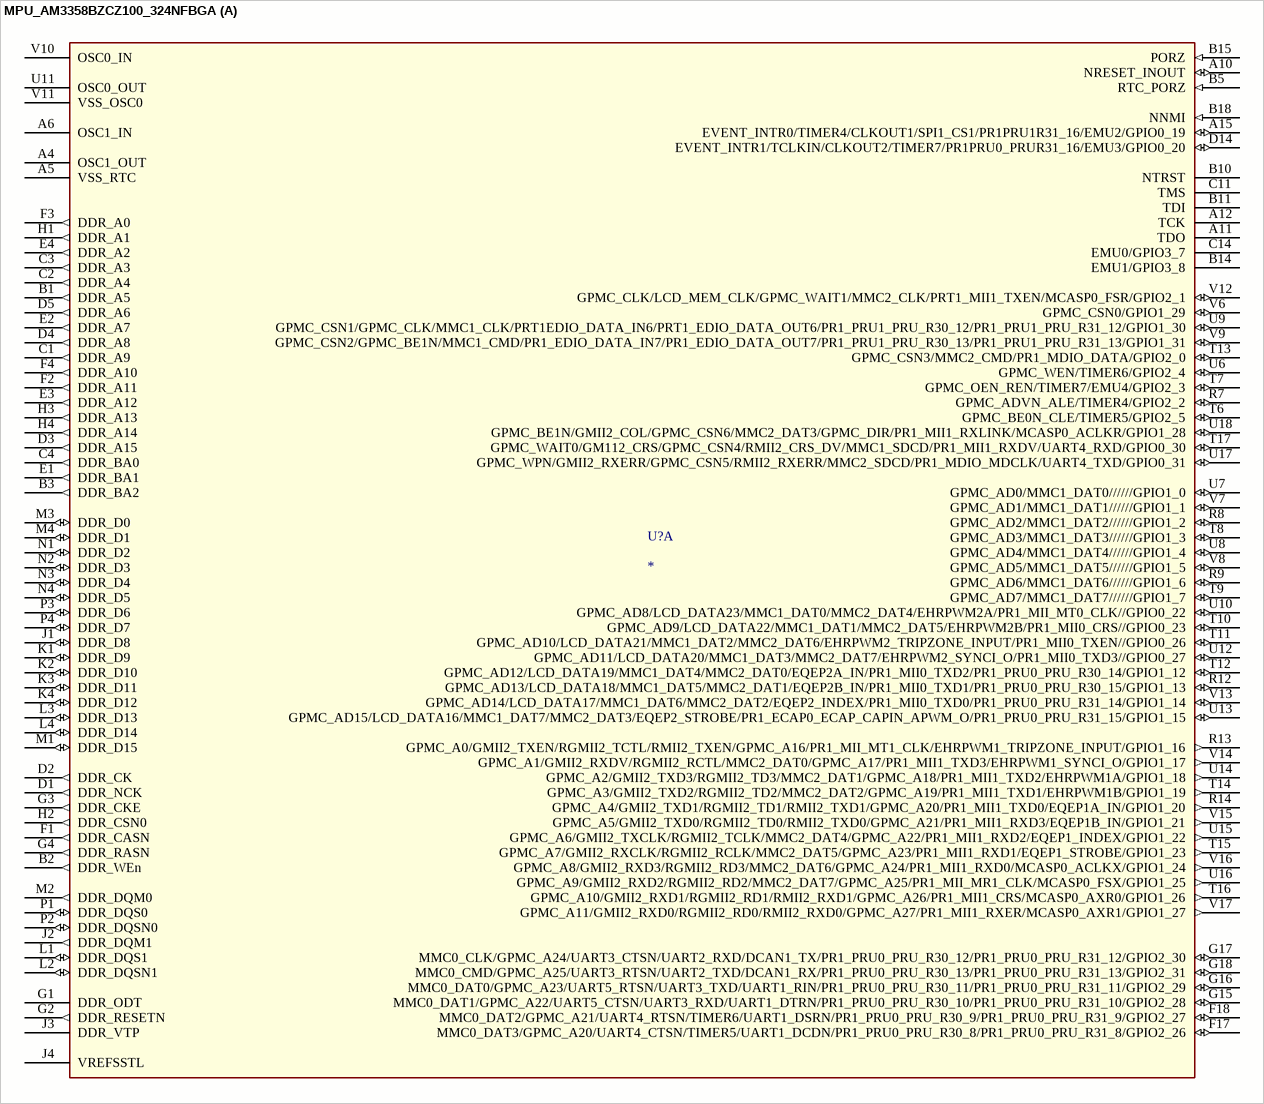
[diagram p2: symbol MPU_AM3358BZCZ100_324NFBGA]

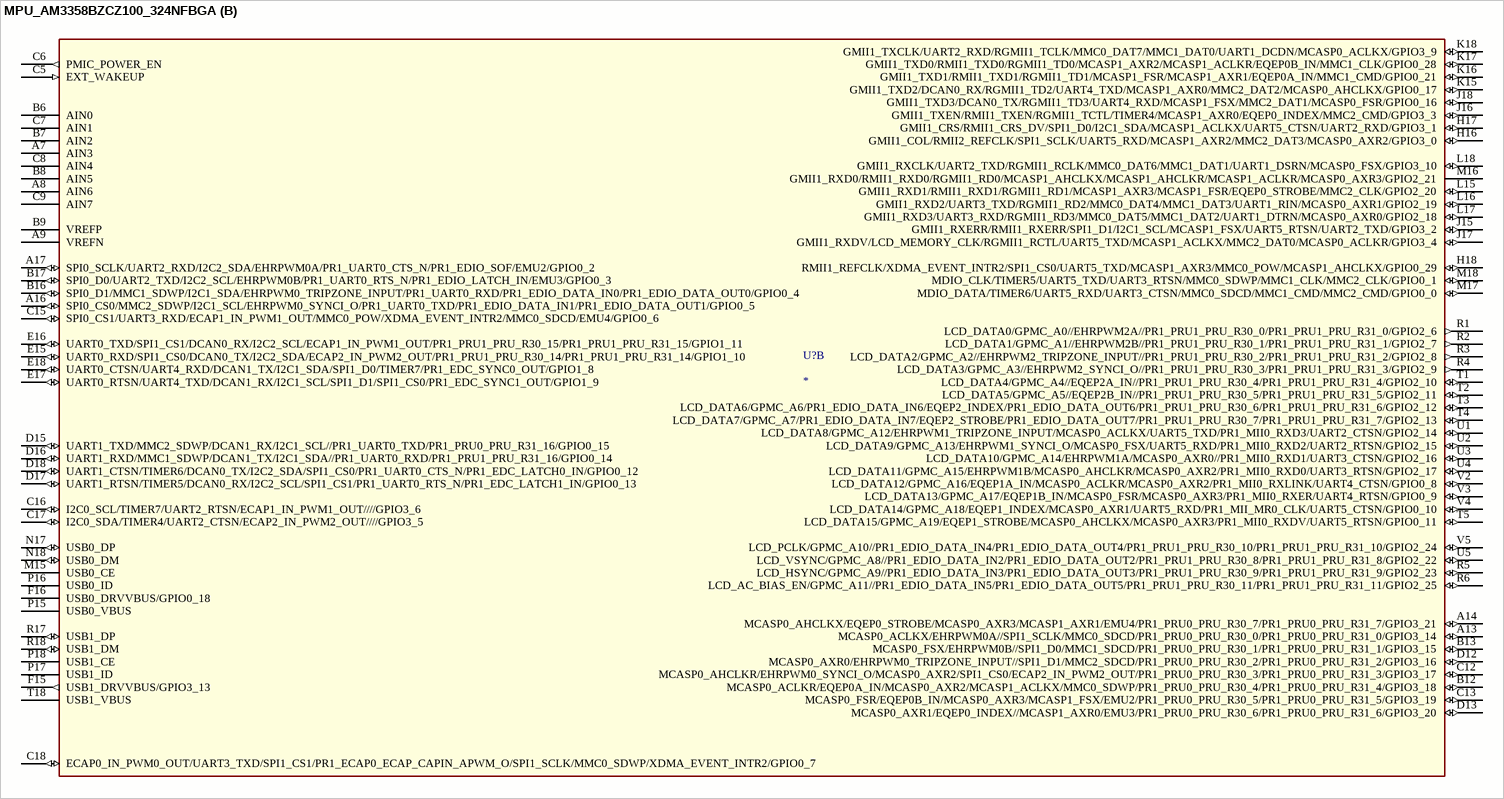
[diagram p3: symbol MPU_AM3358BZCZ100_324NFBGA]

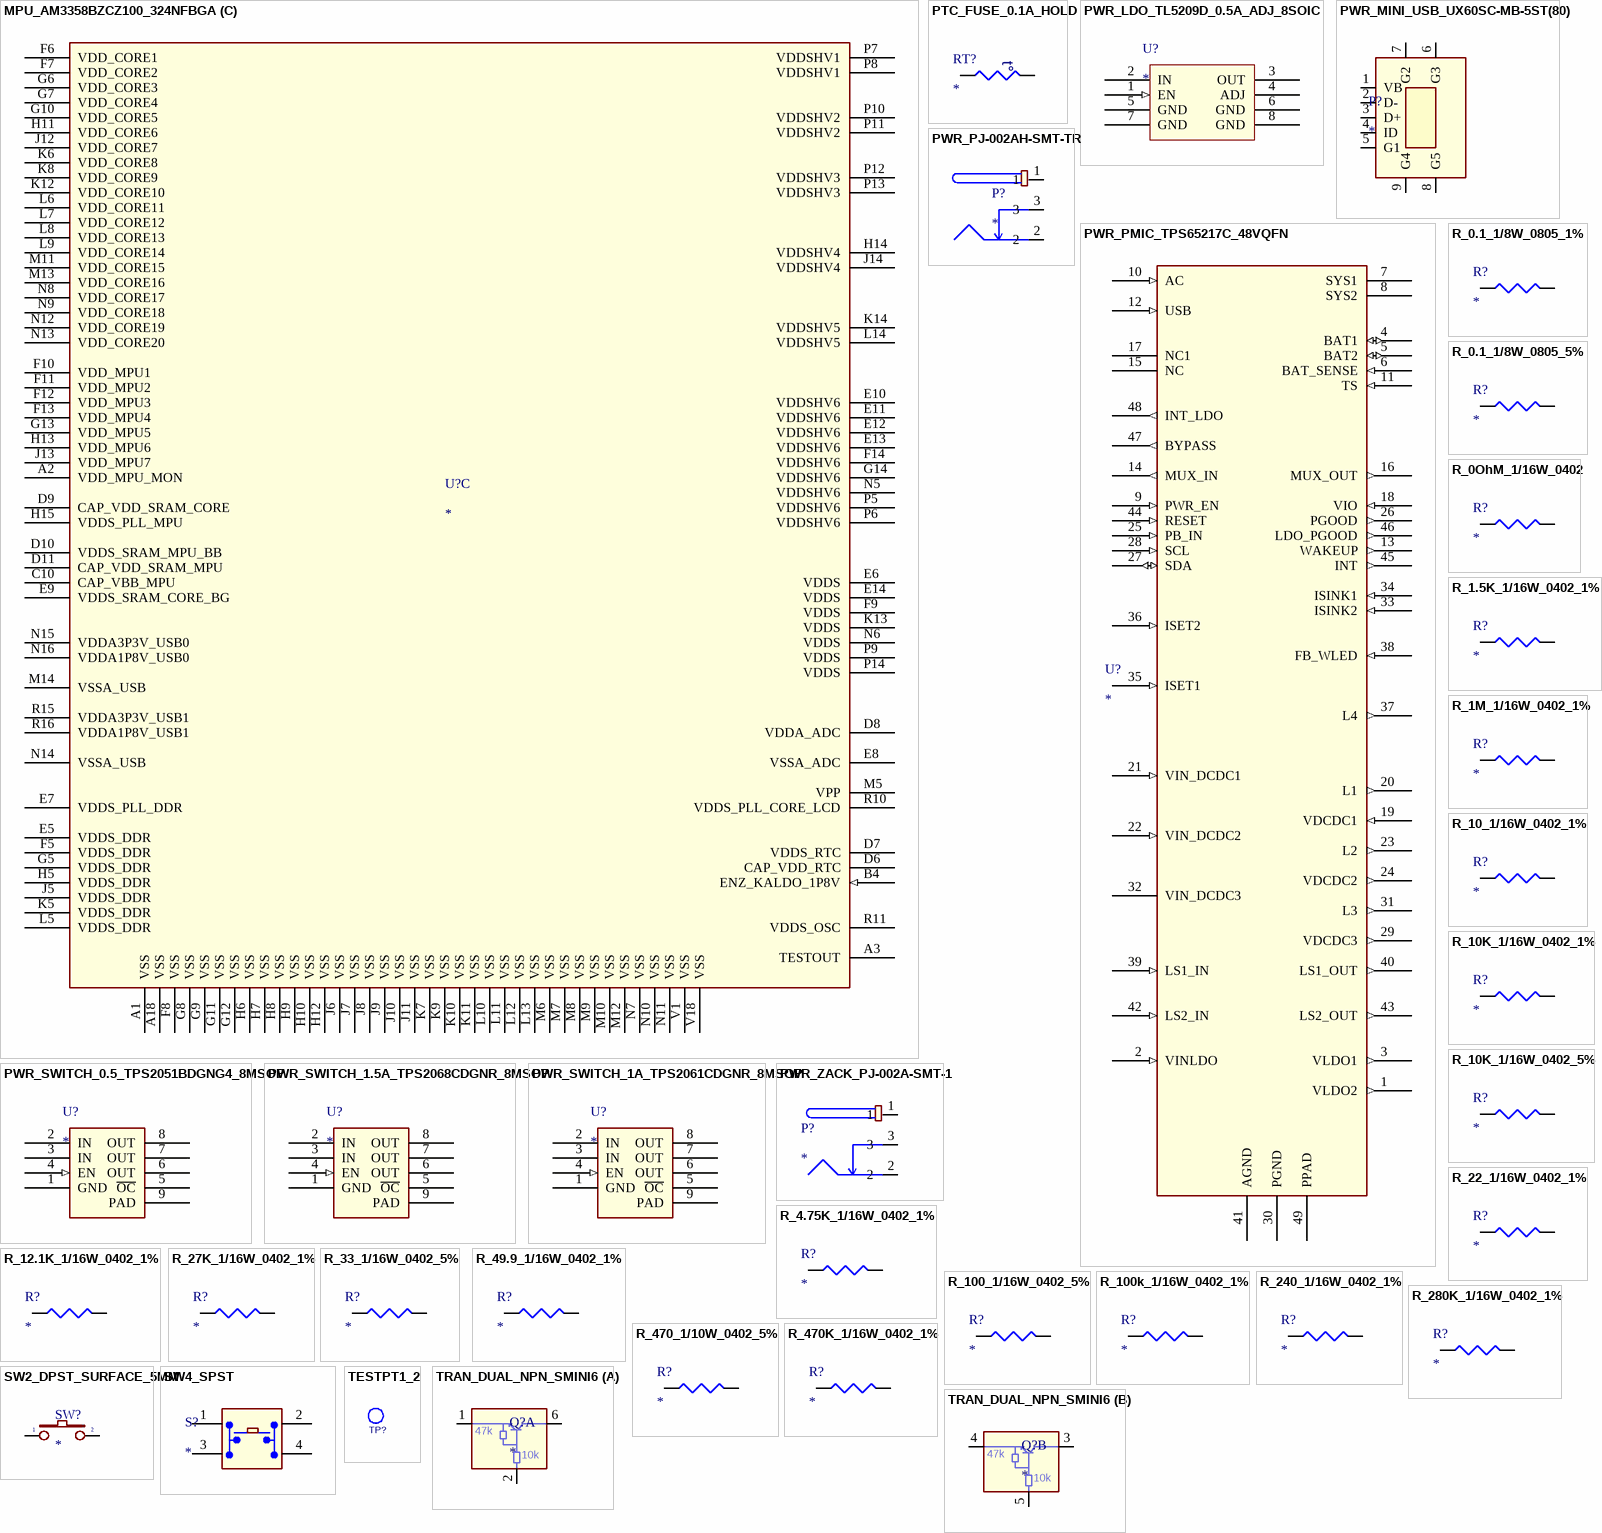
[diagram p4: symbols MPU_AM3358BZCZ100_324NFBGA to TRAN_DUAL_NPN_SMINI6]